# EAGLE library part CAY16-221J4LF (library Resistor_Capacitor)
RES ARRAY 4 RES 220 OHM 1206 Manufacturer's datasheet <https://www.bourns.com/docs/Product-Datasheets/CATCAY.pdf>
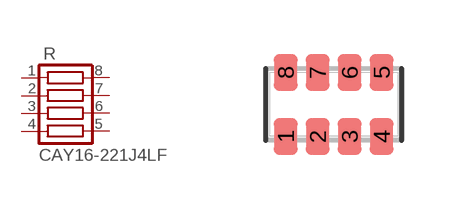
[diagram p0: symbol with the pads of RES_4_ARRAY_; footprint RES_4_ARRAY_]

Designator prefix R

## CAY16-221J4LF (CREATED_BY: PCBLayout.com; DIGIKEY_PART_NUMBER: CAY16-221J4LFTR-ND; MANUFACTURER: Bourns Inc.; MPN: CAY16-221J4LF; PACKAGE: SMD 1206)  [RES_4_ARRAY_]
1  1  pas
2  2  pas
3  3  pas
4  4  pas
5  5  pas
6  6  pas
7  7  pas
8  8  pas

## Footprint RES_4_ARRAY_ (pad centres in mm)
Chip Array, 2 Side Concave, 0.80 mm pitch; 8 pin, 3.20 mm L X 1.60 mm W X 0.50 mm H body PCB Libraries Packages
smd 0.59 x 0.92: 1 -1.2,-0.8; 2 -0.4,-0.8; 3 0.4,-0.8; 4 1.2,-0.8; 5 1.2,0.8; 6 0.4,0.8; 7 -0.4,0.8; 8 -1.2,0.8